# Altium footprint library DRP_Basic_2014.PcbLib: 82 footprints (part 1 of 6)
Each footprint in its own frame and in the unit in brackets; x right, y up, seen from the top. Pads: shape width x height; smd on the part's side, far side on the other; paste and mask are expansions set on the pad; w line width, h text height; cw(c..) or ccw(c..) is an arc to the next point about the centre after c.
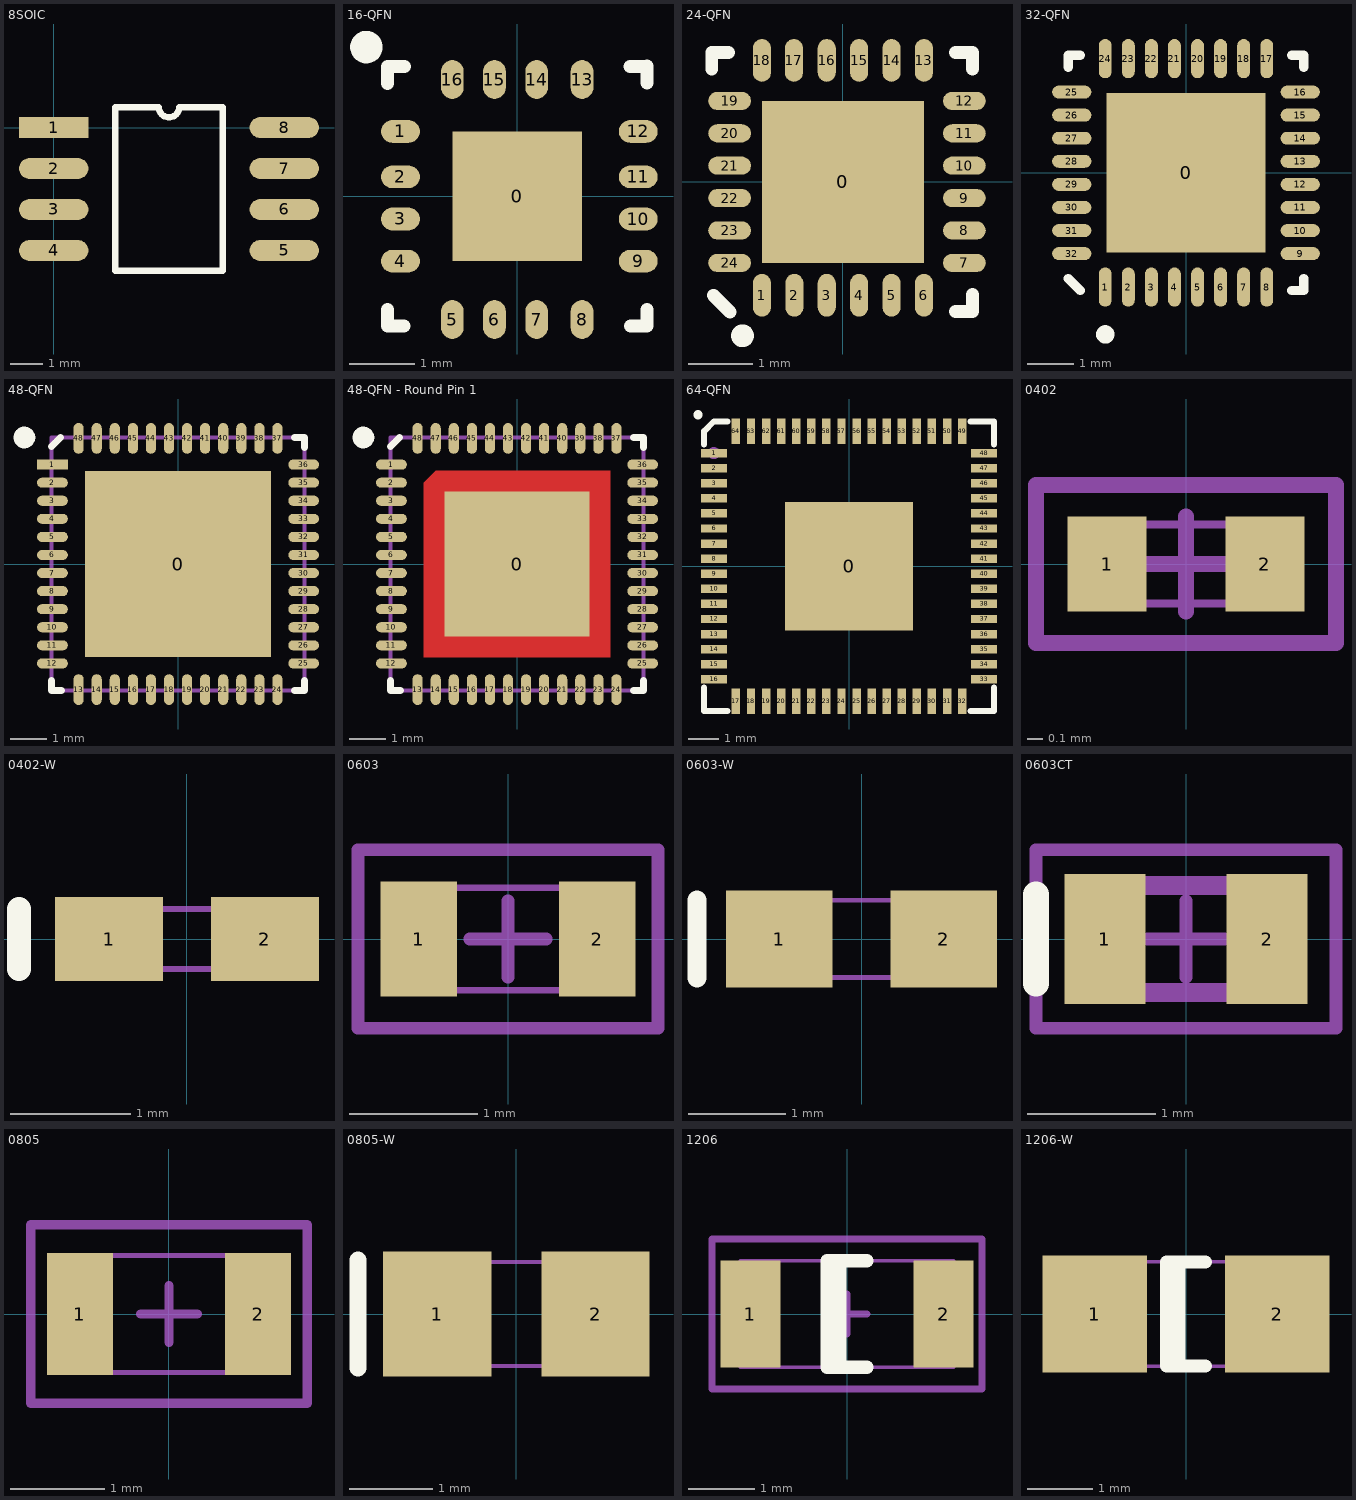
[diagram p0: the footprints below, top view; thin cyan lines are the x and y axes]

## 8SOIC [mm]
pads (8):
  rect 2.15x0.65 smd: 1(0,0)
  oval 2.15x0.65 smd: 2(0,-1.27) 3(0,-2.54) 4(0,-3.81) 5(7.15,-3.81) 6(7.15,-2.54) 7(7.15,-1.27) 8(7.15,0)
Top Overlay:
  lines w0.2: 1.91,-4.445 1.91,0.635 3.257,0.635 ccw(c3.575,0.635) 3.892,0.635 5.24,0.635 5.24,-4.445 1.91,-4.445

## 16-QFN [mm] "16-QFN, LFCSP (CP-16-5) for ADXL330k"
pads (17):
  rect 2x2 smd: 0(0,0)
  oval 0.6x0.35 smd: 1(-1.8,1) 2(-1.8,0.3) 3(-1.8,-0.35) 4(-1.8,-1) 9(1.867,-1) 10(1.867,-0.35) 11(1.867,0.3) 12(1.867,1)
  oval 0.35x0.6 smd: 5(-1,-1.9) 6(-0.35,-1.9) 7(0.3,-1.9) 8(1,-1.9) 13(1,1.8) 14(0.3,1.8) 15(-0.35,1.8) 16(-1,1.8)
Top Overlay:
  circle w0.25: c-2.325,2.3 r0.125
  lines w0.2: -2,-1.746 -2,-2 -1.746,-2 ; -2,1.74 -2,2 -1.74,2 ; 1.74,2 2,2 ; 1.746,-2 2,-2 2,-1.746 ; 2,1.746 2,2.006

## 24-QFN [mm] "24-QFN, for MSP430Fx21x1"
height 1
pads (25):
  rect 2.5x2.5 smd: 0(0,0)
  oval 0.28x0.66 smd: 1(-1.25,-1.75) 2(-0.75,-1.75) 3(-0.25,-1.75) 4(0.25,-1.75) 5(0.75,-1.75) 6(1.25,-1.75) 13(1.25,1.875) 14(0.75,1.875) 15(0.25,1.875) 16(-0.25,1.875) 17(-0.757,1.875) 18(-1.25,1.875)
  oval 0.66x0.28 smd: 7(1.875,-1.25) 8(1.875,-0.75) 9(1.875,-0.25) 10(1.875,0.25) 11(1.875,0.75) 12(1.875,1.25) 19(-1.75,1.25) 20(-1.75,0.75) 21(-1.75,0.25) 22(-1.75,-0.25) 23(-1.75,-0.75) 24(-1.75,-1.25)
Top Overlay:
  circle w0.25: c-1.55,-2.375 r0.05
  lines w0.2: -2.025,1.74 -2.025,2 -1.765,2 ; -2,-1.75 -1.74,-2.01 ; 1.74,-2 2,-2 2,-1.74 ; 1.74,2 2,2 2,1.74

## 32-QFN [mm] "32-QFN, for MSP430F1232"
height 1
pads (33):
  rect 3.45x3.45 smd: 0(0,0)
  oval 0.28x0.85 smd: 1(-1.75,-2.475) 2(-1.25,-2.475) 3(-0.75,-2.475) 4(-0.25,-2.475) 5(0.25,-2.475) 6(0.75,-2.475) 7(1.25,-2.475) 8(1.75,-2.475) 17(1.75,2.475) 18(1.25,2.475) 19(0.75,2.475) 20(0.25,2.475) 21(-0.25,2.475) 22(-0.75,2.475) 23(-1.25,2.475) 24(-1.75,2.475)
  oval 0.85x0.28 smd: 9(2.475,-1.75) 10(2.475,-1.25) 11(2.475,-0.75) 12(2.475,-0.25) 13(2.475,0.25) 14(2.475,0.75) 15(2.475,1.25) 16(2.475,1.75) 25(-2.475,1.75) 26(-2.475,1.25) 27(-2.475,0.75) 28(-2.475,0.25) 29(-2.475,-0.25) 30(-2.475,-0.75) 31(-2.475,-1.25) 32(-2.475,-1.75)
Top Overlay:
  circle w0.2: c-1.75,-3.5 r0.1
  lines w0.2: -2.55,-2.29 -2.29,-2.55 ; -2.55,2.29 -2.55,2.55 -2.29,2.55 ; 2.29,-2.55 2.55,-2.55 2.55,-2.29 ; 2.29,2.55 2.55,2.55 2.55,2.29

## 48-QFN [mm]
pads (49):
  rect 5.15x5.15 smd mask+0.07: 0(0,0)
  rect 0.85x0.28 smd mask+0.07: 1(-3.475,2.75)
  oval 0.85x0.28 smd mask+0.07: 2(-3.475,2.25) 3(-3.475,1.75) 4(-3.475,1.25) 5(-3.475,0.75) 6(-3.475,0.25) 7(-3.475,-0.25) 8(-3.475,-0.75) 9(-3.475,-1.25) 10(-3.475,-1.75) 11(-3.475,-2.25) 12(-3.475,-2.75) 25(3.475,-2.75) 26(3.475,-2.25) 27(3.475,-1.75) 28(3.475,-1.25) 29(3.475,-0.75) 30(3.475,-0.25) 31(3.475,0.25) 32(3.475,0.75) 33(3.475,1.25) 34(3.475,1.75) 35(3.475,2.25) 36(3.475,2.75)
  oval 0.28x0.85 smd mask+0.07: 13(-2.75,-3.475) 14(-2.25,-3.475) 15(-1.75,-3.475) 16(-1.25,-3.475) 17(-0.75,-3.475) 18(-0.25,-3.475) 19(0.25,-3.475) 20(0.75,-3.475) 21(1.25,-3.475) 22(1.75,-3.475) 23(2.25,-3.475) 24(2.75,-3.475) 37(2.75,3.475) 38(2.25,3.475) 39(1.75,3.475) 40(1.25,3.475) 41(0.75,3.475) 42(0.25,3.475) 43(-0.25,3.475) 44(-0.75,3.475) 45(-1.25,3.475) 46(-1.75,3.475) 47(-2.25,3.475) 48(-2.75,3.475)
Top Overlay:
  circle w0.3: c-4.25,3.5 r0.15
  lines w0.2: -3.5,-3.23 -3.5,-3.5 -3.23,-3.5 ; -3.5,3.25 -3.25,3.5 ; 3.23,-3.5 3.5,-3.5 3.5,-3.23 ; 3.23,3.5 3.5,3.5 3.5,3.23
Mechanical 13:
  circle w0.1: c-3.475,2.75 r0.087
  lines w0.1: -3.5,-3.5 -3.5,3.5 3.5,3.5 3.5,-3.5 -3.5,-3.5
  text ".Designator" at -2.286,1.397 h0.76
3D body: height 1, standoff 0, extent -3.5,-3.5 3.5,3.5

## 48-QFN - Round Pin 1 [mm]
pads (49):
  rect 4x4 smd paste-10 mask-10: 0(0,0)
  oval 0.85x0.28 smd mask+0.07: 1(-3.475,2.75) 2(-3.475,2.25) 3(-3.475,1.75) 4(-3.475,1.25) 5(-3.475,0.75) 6(-3.475,0.25) 7(-3.475,-0.25) 8(-3.475,-0.75) 9(-3.475,-1.25) 10(-3.475,-1.75) 11(-3.475,-2.25) 12(-3.475,-2.75) 25(3.475,-2.75) 26(3.475,-2.25) 27(3.475,-1.75) 28(3.475,-1.25) 29(3.475,-0.75) 30(3.475,-0.25) 31(3.475,0.25) 32(3.475,0.75) 33(3.475,1.25) 34(3.475,1.75) 35(3.475,2.25) 36(3.475,2.75)
  oval 0.28x0.85 smd mask+0.07: 13(-2.75,-3.475) 14(-2.25,-3.475) 15(-1.75,-3.475) 16(-1.25,-3.475) 17(-0.75,-3.475) 18(-0.25,-3.475) 19(0.25,-3.475) 20(0.75,-3.475) 21(1.25,-3.475) 22(1.75,-3.475) 23(2.25,-3.475) 24(2.75,-3.475) 37(2.75,3.475) 38(2.25,3.475) 39(1.75,3.475) 40(1.25,3.475) 41(0.75,3.475) 42(0.25,3.475) 43(-0.25,3.475) 44(-0.75,3.475) 45(-1.25,3.475) 46(-1.75,3.475) 47(-2.25,3.475) 48(-2.75,3.475)
Top Layer:
  region: -2.575,2.25 -2.25,2.575 2.575,2.575 2.575,-2.575 -2.575,-2.575
Top Overlay:
  circle w0.3: c-4.25,3.5 r0.15
  lines w0.2: -3.5,-3.23 -3.5,-3.5 -3.23,-3.5 ; -3.5,3.25 -3.25,3.5 ; 3.23,-3.5 3.5,-3.5 3.5,-3.23 ; 3.23,3.5 3.5,3.5 3.5,3.23
Top Paste:
  rectangle: -2.475,-2.475 -1.025,-1.025
  rectangle: 1.025,-0.725 2.475,0.725
  rectangle: 1.025,-2.475 2.475,-1.025
  rectangle: -2.475,-0.725 -1.025,0.725
  rectangle: -0.75,-0.725 0.7,0.725
  rectangle: 1.025,1.025 2.475,2.475
  rectangle: -2.475,1.025 -1.025,2.475
  rectangle: -0.725,1.025 0.725,2.475
  rectangle: -0.725,-2.475 0.725,-1.025
Top Solder:
  rectangle: -2.575,-2.575 2.575,2.575
Mechanical 13:
  circle w0.1: c-3.475,2.75 r0.087
  lines w0.1: -3.5,-3.5 -3.5,3.5 3.5,3.5 3.5,-3.5 -3.5,-3.5
  text ".Designator" at -2.286,1.397 h0.76
3D body: height 1, standoff 0, extent -3.5,-3.5 3.5,3.5

## 64-QFN [mm] "MSP430F5310 LCC64"
height 1
pads (65):
  rect 4.25x4.25 smd: 0(0,0)
  rect 0.85x0.28 smd: 1(-4.475,3.75) 2(-4.475,3.25) 3(-4.475,2.75) 4(-4.475,2.25) 5(-4.475,1.75) 6(-4.475,1.25) 7(-4.475,0.75) 8(-4.475,0.25) 9(-4.475,-0.25) 10(-4.475,-0.75) 11(-4.475,-1.25) 12(-4.475,-1.75) 13(-4.475,-2.25) 14(-4.475,-2.75) 15(-4.475,-3.25) 16(-4.475,-3.75) 33(4.475,-3.75) 34(4.475,-3.25) 35(4.475,-2.75) 36(4.475,-2.25) 37(4.475,-1.75) 38(4.475,-1.25) 39(4.475,-0.75) 40(4.475,-0.25) 41(4.475,0.25) 42(4.475,0.75) 43(4.475,1.25) 44(4.475,1.75) 45(4.475,2.25) 46(4.475,2.75) 47(4.475,3.25) 48(4.475,3.75)
  rect 0.28x0.85 smd: 17(-3.75,-4.475) 18(-3.25,-4.475) 19(-2.75,-4.475) 20(-2.25,-4.475) 21(-1.75,-4.475) 22(-1.25,-4.475) 23(-0.75,-4.475) 24(-0.25,-4.475) 25(0.25,-4.475) 26(0.75,-4.475) 27(1.25,-4.475) 28(1.75,-4.475) 29(2.25,-4.475) 30(2.75,-4.475) 31(3.25,-4.475) 32(3.75,-4.475) 49(3.75,4.475) 50(3.25,4.475) 51(2.75,4.475) 52(2.25,4.475) 53(1.75,4.475) 54(1.25,4.475) 55(0.75,4.475) 56(0.25,4.475) 57(-0.25,4.475) 58(-0.75,4.475) 59(-1.25,4.475) 60(-1.75,4.475) 61(-2.25,4.475) 62(-2.75,4.475) 63(-3.25,4.475) 64(-3.75,4.475)
Top Overlay:
  circle w0.254: c-5.008,5.02 r0.025
  lines w0.2: -4.8,-4.03 -4.8,-4.8 -4.03,-4.8 ; -4.8,4.03 -4.8,4.475 -4.475,4.8 -4.03,4.8 ; 4.03,-4.8 4.8,-4.8 4.8,-4.03 ; 4.03,4.8 4.8,4.8 4.8,4.03
Mechanical 13:
  circle w0.2: c-4.475,3.75 r0.1
  text ".Designator" at -3.4,2.4 h0.76
3D body: height 1, standoff 0, extent -4.375,-4.35 4.425,4.35

## 0402 [mm] "Surface Mount; Body 1 x 0.5 mm (LxW typ)"
height 0.5
pads (2):
  rect 0.5x0.6 smd: 1(-0.5,0) 2(0.5,0)
Mechanical 13:
  lines w0.051: -0.5,-0.25 0.5,-0.25 0.5,0.25 -0.5,0.25 -0.5,-0.25
  text ".Designator" at -0.4,-0.1 h0.23
Mechanical 15:
  lines w0.1: -0.3,0 0.3,0 ; 0,-0.3 0,0.3 ; -0.95,-0.5 0.95,-0.5 0.95,0.5 -0.95,0.5 -0.95,-0.5
3D body: height 0.5, standoff 0, extent -0.5,-0.25 0.5,0.25

## 0402-W [mm] "Surface Mount - Wide; Body 1.0 x 0.5 mm (LxW typ)"
height 0.5
pads (2):
  rect 0.9x0.7 smd: 1(-0.65,0) 2(0.65,0)
Top Overlay:
  lines w0.2: -1.4,-0.25 -1.4,0.25
Mechanical 13:
  lines w0.051: -0.5,-0.25 0.5,-0.25 0.5,0.25 -0.5,0.25 -0.5,-0.25
3D body: height 0.5, standoff 0, extent -0.5,-0.25 0.5,0.25

## 0603 [mm] "Surface Mount; Body 1.6 x 0.8 mm (LxW typ)"
height 0.8
pads (2):
  rect 0.6x0.9 smd: 1(-0.7,0) 2(0.7,0)
Mechanical 13:
  lines w0.051: -0.8,-0.4 -0.8,0.4 0.8,0.4 0.8,-0.4 -0.8,-0.4
  text ".Designator" at -0.65,-0.1 h0.3
Mechanical 15:
  lines w0.1: -0.3,0 0.3,0 ; 0,-0.3 0,0.3 ; -1.175,-0.7 -1.175,0.7 1.175,0.7 1.175,-0.7 -1.175,-0.7
3D body: height 0.8, standoff 0, extent -0.8,-0.4 0.8,0.4

## 0603-W [mm] "Surface Mount - Wide; Body 1.6 x 0.8 mm (LxW typ)"
height 0.8
pads (2):
  rect 1.1x1 smd: 1(-0.85,0) 2(0.85,0)
Top Overlay:
  lines w0.2: -1.7,-0.4 -1.7,0.4
Mechanical 13:
  lines w0.051: -0.8,-0.4 -0.8,0.4 0.8,0.4 0.8,-0.4 -0.8,-0.4
3D body: height 0.8, standoff 0, extent -0.8,-0.4 0.8,0.4

## 0603CT [mil] "0603CT Coilcraft Inductor"
height 24.02
pads (2):
  rect 25x40 smd: 1(-25,0) 2(25,0)
Top Overlay:
  lines w7.87: -46.26,-13.78 -46.26,13.78
Mechanical 13:
  lines w2: -31.5,-15.75 -31.5,15.75 ; 31.5,-15.75 31.5,15.75
  lines w6: -32,-16.5 32,-16.5 32,16.5 -32,16.5 -32,-16.5
  text ".Designator" at -25.59,-3.94 h12
Mechanical 15:
  lines w3.94: -11.81,0 11.81,0 ; 0,-11.81 0,11.81 ; -46.26,-27.56 -46.26,27.56 46.26,27.56 46.26,-27.56 -46.26,-27.56
3D body: height 24, standoff 0, extent -32,-16.5 31.5,16.5

## 0805 [mm] "Surface Mount; Body 2.0 x 1.25 mm (LxW typ)"
height 1.25
pads (2):
  rect 0.7x1.3 smd: 1(-0.95,0) 2(0.95,0)
Mechanical 13:
  lines w0.051: -1,-0.625 1,-0.625 1,0.625 -1,0.625 -1,-0.625
  text ".Designator" at -0.762,-0.127 h0.38
Mechanical 15:
  lines w0.1: -0.3,0 0.3,0 ; 0,-0.3 0,0.3 ; -1.475,-0.95 1.475,-0.95 1.475,0.95 -1.475,0.95 -1.475,-0.95
3D body: height 1.25, standoff 0, extent -1,-0.625 1,0.625

## 0805-W [mm] "Surface Mount - Wide; Body 2.0 x 1.25 mm (LxW typ)"
height 1.25
pads (2):
  rect 1.3x1.5 smd: 1(-0.95,0) 2(0.95,0)
Top Overlay:
  lines w0.2: -1.9,-0.65 -1.9,0.65
Mechanical 13:
  lines w0.051: -1,-0.625 1,-0.625 1,0.625 -1,0.625 -1,-0.625
3D body: height 1.25, standoff 0, extent -1,-0.625 1,0.625

## 1206 [mm] "Surface Mount; Body 3.2 x 1.6 mm (LxW typ)"
height 1.6
pads (2):
  rect 0.9x1.6 smd: 1(-1.45,0) 2(1.45,0)
Top Overlay:
  lines w0.2: -0.11,-0.8 -0.11,0.8 ; 0.3,-0.8 -0.3,-0.8 -0.3,0.8 0.3,0.8
Mechanical 13:
  lines w0.051: -1.6,-0.8 -1.6,0.8 1.6,0.8 1.6,-0.8 -1.6,-0.8
  text ".Designator" at -1.4,-0.35 h0.76
Mechanical 15:
  lines w0.1: -0.3,0 0.3,0 ; 0,-0.3 0,0.3 ; -2.025,-1.125 -2.025,1.125 2.025,1.125 2.025,-1.125 -2.025,-1.125
3D body: height 1.1, standoff 0, extent -1.6,-0.8 1.6,0.8

## 1206-W [mm] "Surface Mount - Wide; Body 3.2 x 1.6 mm (LxW typ)"
height 1.6
pads (2):
  rect 1.6x1.8 smd: 1(-1.4,0) 2(1.4,0)
Top Overlay:
  lines w0.2: -0.11,-0.8 -0.11,0.8 ; 0.3,-0.8 -0.3,-0.8 -0.3,0.8 0.3,0.8
Mechanical 13:
  lines w0.051: -1.6,-0.8 -1.6,0.8 1.6,0.8 1.6,-0.8 -1.6,-0.8
3D body: height 1.1, standoff 0, extent -1.6,-0.8 1.6,0.8